# Altium schematic symbol library VoltageRegS3V3.SchLib: 1 symbol
Pins are listed as number, name and electrical type; pins without a type are passive.

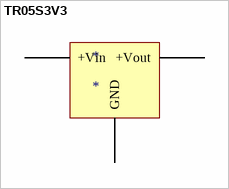
[diagram p0: symbol TR05S3V3]

## TR05S3V3
designator *
pins: 3 +Vin, 4 +Vout, 5 GND